# EAGLE library part LISA-U200 (library LISA)
U-blox LISA-U200
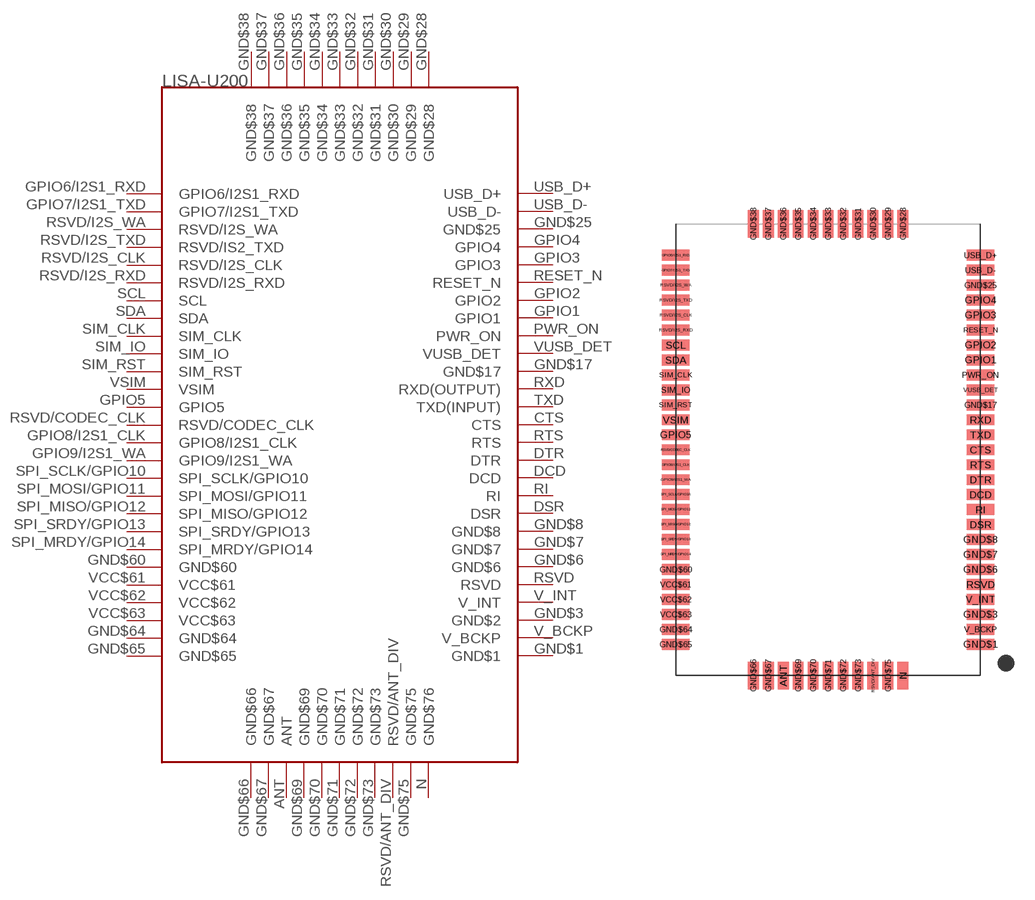
[diagram p0: symbol with the pads of 76PIN_LCC; footprint 76PIN_LCC]

Designator prefix LISA

## LISA-U200  [76PIN_LCC]
ANT  ANT
CTS  CTS
DCD  DCD
DSR  DSR
DTR  DTR
GND$1  GND$1  pwr
GND$3  GND$2  pwr
GND$6  GND$6  pwr
GND$7  GND$7  pwr
GND$8  GND$8  pwr
GND$17  GND$17
GND$25  GND$25
GND$28  GND$28  pwr
GND$29  GND$29  pwr
GND$30  GND$30  pwr
GND$31  GND$31  pwr
GND$32  GND$32  pwr
GND$33  GND$33  pwr
GND$34  GND$34  pwr
GND$35  GND$35  pwr
GND$36  GND$36  pwr
GND$37  GND$37  pwr
GND$38  GND$38  pwr
GND$60  GND$60  pwr
GND$64  GND$64  pwr
GND$65  GND$65  pwr
GND$66  GND$66  pwr
GND$67  GND$67  pwr
GND$69  GND$69  pwr
GND$70  GND$70  pwr
GND$71  GND$71  pwr
GND$72  GND$72  pwr
GND$73  GND$73  pwr
GND$75  GND$75  pwr
GPIO1  GPIO1
GPIO2  GPIO2
GPIO3  GPIO3
GPIO4  GPIO4
GPIO5  GPIO5
GPIO6/I2S1_RXD  GPIO6/I2S1_RXD
GPIO7/I2S1_TXD  GPIO7/I2S1_TXD
GPIO8/I2S1_CLK  GPIO8/I2S1_CLK
GPIO9/I2S1_WA  GPIO9/I2S1_WA
N  GND$76  pwr
PWR_ON  PWR_ON
RESET_N  RESET_N
RI  RI
RSVD  RSVD
RSVD/ANT_DIV  RSVD/ANT_DIV
RSVD/CODEC_CLK  RSVD/CODEC_CLK
RSVD/I2S_CLK  RSVD/I2S_CLK
RSVD/I2S_RXD  RSVD/I2S_RXD
RSVD/I2S_TXD  RSVD/IS2_TXD
RSVD/I2S_WA  RSVD/I2S_WA
RTS  RTS
RXD  RXD(OUTPUT)
SCL  SCL
SDA  SDA
SIM_CLK  SIM_CLK
SIM_IO  SIM_IO
SIM_RST  SIM_RST
SPI_MISO/GPIO12  SPI_MISO/GPIO12
SPI_MOSI/GPIO11  SPI_MOSI/GPIO11
SPI_MRDY/GPIO14  SPI_MRDY/GPIO14
SPI_SCLK/GPIO10  SPI_SCLK/GPIO10
SPI_SRDY/GPIO13  SPI_SRDY/GPIO13
TXD  TXD(INPUT)
USB_D+  USB_D+
USB_D-  USB_D-
V_BCKP  V_BCKP  pwr
V_INT  V_INT
VCC$61  VCC$61  pwr
VCC$62  VCC$62  pwr
VCC$63  VCC$63  pwr
VSIM  VSIM  pwr
VUSB_DET  VUSB_DET

## Footprint 76PIN_LCC (pad centres in mm)
smd 0.8 x 2: ANT -3.3,-16.6; GND$28 5.5,16.6; GND$29 4.4,16.6; GND$30 3.3,16.6; GND$31 2.2,16.6; GND$32 1.1,16.6; GND$33 0,16.6; GND$34 -1.1,16.6; GND$35 -2.2,16.6; GND$36 -3.3,16.6; GND$37 -4.4,16.6; GND$38 -5.5,16.6; GND$66 -5.5,-16.6; GND$67 -4.4,-16.6; GND$69 -2.2,-16.6; GND$70 -1.1,-16.6; GND$71 0,-16.6; GND$72 1.1,-16.6; GND$73 2.2,-16.6; GND$75 4.4,-16.6; N 5.5,-16.6; RSVD/ANT_DIV 3.3,-16.6
smd 2 x 0.8: CTS 11.2,0; DCD 11.2,-3.3; DSR 11.2,-5.5; DTR 11.2,-2.2; GND$1 11.2,-14.3; GND$3 11.2,-12.1; GND$6 11.2,-8.8; GND$7 11.2,-7.7; GND$8 11.2,-6.6; GND$17 11.2,3.3; GND$25 11.2,12.1; GND$60 -11.2,-8.8; GND$64 -11.2,-13.2; GND$65 -11.2,-14.3; GPIO1 11.2,6.6; GPIO2 11.2,7.7; GPIO3 11.2,9.9; GPIO4 11.2,11; GPIO5 -11.2,1.1; GPIO6/I2S1_RXD -11.2,14.3; GPIO7/I2S1_TXD -11.2,13.2; GPIO8/I2S1_CLK -11.2,-1.1; GPIO9/I2S1_WA -11.2,-2.2; PWR_ON 11.2,5.5; RESET_N 11.2,8.8; RI 11.2,-4.4; RSVD 11.2,-9.9; RSVD/CODEC_CLK -11.2,0; RSVD/I2S_CLK -11.2,9.9; RSVD/I2S_RXD -11.2,8.8; RSVD/I2S_TXD -11.2,11; RSVD/I2S_WA -11.2,12.1; RTS 11.2,-1.1; RXD 11.2,2.2; SCL -11.2,7.7; SDA -11.2,6.6; SIM_CLK -11.2,5.5; SIM_IO -11.2,4.4; SIM_RST -11.2,3.3; SPI_MISO/GPIO12 -11.2,-5.5; SPI_MOSI/GPIO11 -11.2,-4.4; SPI_MRDY/GPIO14 -11.2,-7.7; SPI_SCLK/GPIO10 -11.2,-3.3; SPI_SRDY/GPIO13 -11.2,-6.6; TXD 11.2,1.1; USB_D+ 11.2,14.3; USB_D- 11.2,13.2; V_BCKP 11.2,-13.2; V_INT 11.2,-11; VCC$61 -11.2,-9.9; VCC$62 -11.2,-11; VCC$63 -11.2,-12.1; VSIM -11.2,2.2; VUSB_DET 11.2,4.4